# EAGLE library part ADAFRUIT-FEATHER-M0-EXPRESS_MICROBUILDER_SPIFLASH_SOIC8 (library OSO-BOOK-C3-00)
SOIC8 SPI Flash Be careful with the size since SOIC8 flash comes in several 'widths' SOIC8 150 mil M25P16 - 16Mbit (2Mbit x 8) Serial Flash (75MHz SPI Bus), Supply: 2.7-3.6V Digikey: SOIC8 - M25P16-VMN6P-ND SOIC8 208 mil W25Q16BVSSIG - 16Mbit (2Mbit x 8) Serial Flash (104MHz SPI Bus), Supply: 2.7-3.6V Digikey: SOIC8 - W25Q16BVSSIG-ND
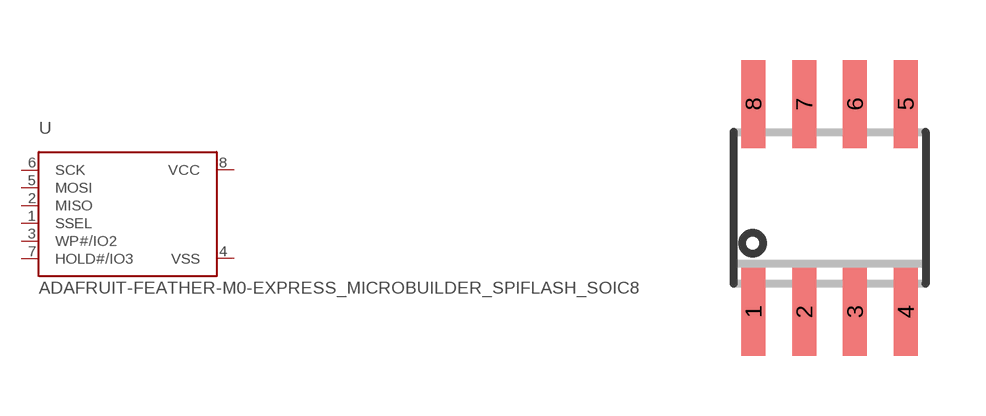
[diagram p0: symbol with the pads of ADAFRUIT-FEATHER-M0-EXPRESS_MICROBUILDER_SOIC8_150MIL; footprint ADAFRUIT-FEATHER-M0-EXPRESS_MICROBUILDER_SOIC8_150MIL]

Designator prefix U

## ADAFRUIT-FEATHER-M0-EXPRESS_MICROBUILDER_SPIFLASH_SOIC8  [ADAFRUIT-FEATHER-M0-EXPRESS_MICROBUILDER_SOIC8_150MIL]
1  SSEL
2  MISO
3  WP#/IO2
4  VSS
5  MOSI
6  SCK
7  HOLD#/IO3
8  VCC

## Footprint ADAFRUIT-FEATHER-M0-EXPRESS_MICROBUILDER_SOIC8_150MIL (pad centres in mm)
Small Outline IC - 150mil Wide
smd 0.6 x 2.2: 1 -1.905,-2.6; 2 -0.635,-2.6; 3 0.635,-2.6; 4 1.905,-2.6; 5 1.905,2.6; 6 0.635,2.6; 7 -0.635,2.6; 8 -1.905,2.6